# EAGLE library part MOLEX_MINIFIT-14 (library molex_mini-fit)
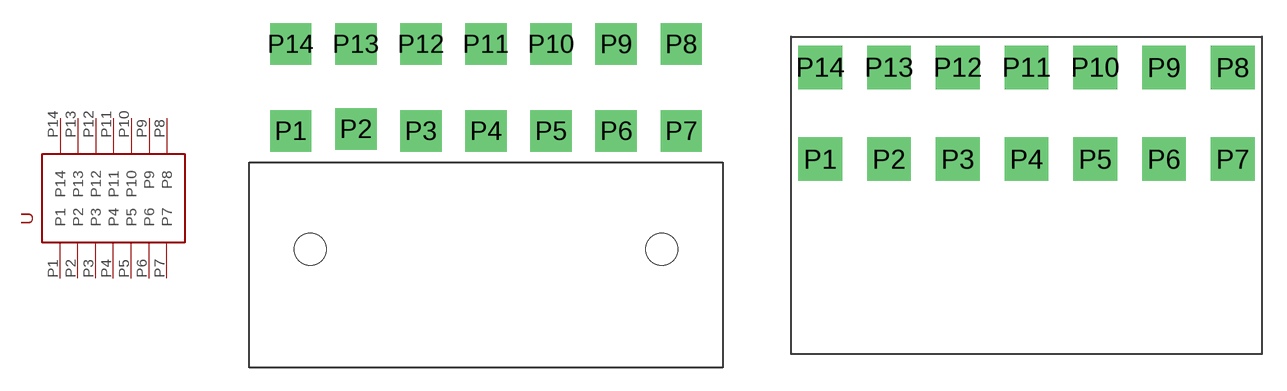
[diagram p0: symbol with the pads of MOLEX_MINIFIT-14; footprints MOLEX_MINIFIT-14, MOLEX_MINIFIT-14_NO_PEG]

Designator prefix -

## MOLEX_MINIFIT-14PEG  [MOLEX_MINIFIT-14]
P1  P1
P2  P2
P3  P3
P4  P4
P5  P5
P6  P6
P7  P7
P8  P8
P9  P9
P10  P10
P11  P11
P12  P12
P13  P13
P14  P14

## MOLEX_MINIFIT-14NO_PEG  [MOLEX_MINIFIT-14_NO_PEG]
Pads as for MOLEX_MINIFIT-14

## Footprint MOLEX_MINIFIT-14 (pad centres in mm)
drill 1.778 pad 2.54 square: P1 -12.573,-2.794; P2 -8.382,-2.667; P3 -4.191,-2.794; P4 0,-2.794; P5 4.191,-2.794; P6 8.382,-2.794; P7 12.573,-2.794; P8 12.573,2.794; P9 8.382,2.794; P10 4.191,2.794; P11 0,2.794; P12 -4.191,2.794; P13 -8.382,2.794; P14 -12.573,2.794
hole 2.057 at -11.303,-10.414
hole 2.057 at 11.303,-10.414

## Footprint MOLEX_MINIFIT-14_NO_PEG (pad centres in mm)
drill 1.778 pad 2.54 square: P1 -12.573,-2.794; P2 -8.382,-2.794; P3 -4.191,-2.794; P4 0,-2.794; P5 4.191,-2.794; P6 8.382,-2.794; P7 12.573,-2.794; P8 12.573,2.794; P9 8.382,2.794; P10 4.191,2.794; P11 0,2.794; P12 -4.191,2.794; P13 -8.382,2.794; P14 -12.573,2.794